# Altium footprint library NL_PCB_L.PcbLib: 10 footprints
Each footprint in its own frame and in the unit in brackets; x right, y up, seen from the top. Pads: shape width x height; smd on the part's side, far side on the other; paste and mask are expansions set on the pad; w line width, h text height; cw(c..) or ccw(c..) is an arc to the next point about the centre after c.
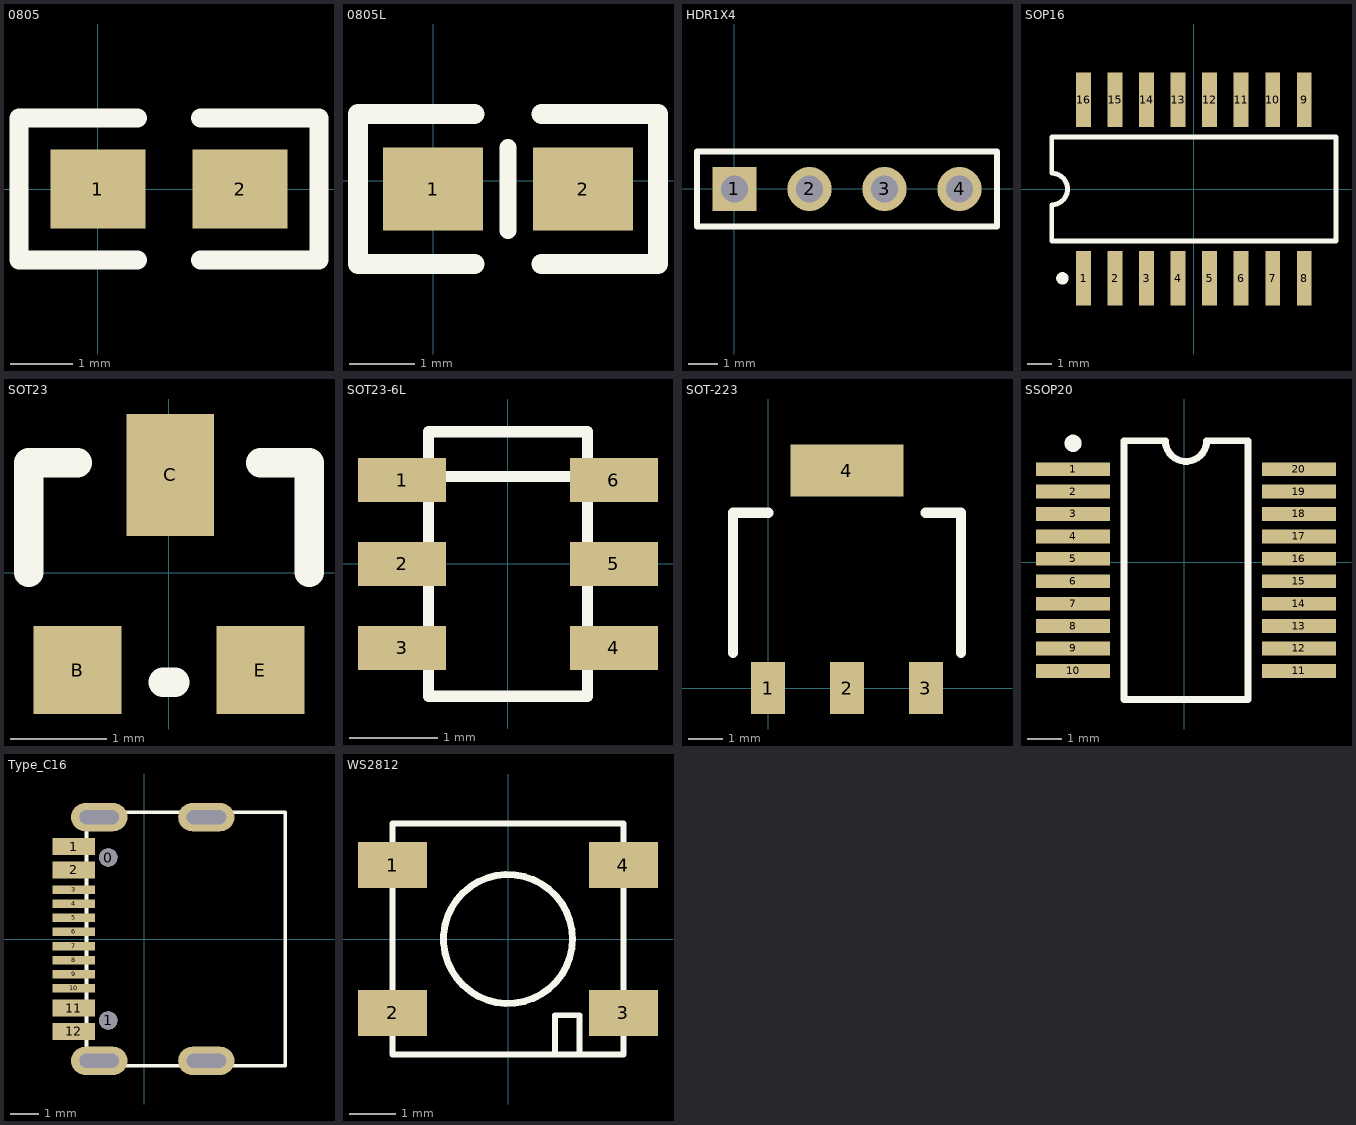
[diagram p0: the footprints below, top view; thin cyan lines are the x and y axes]

## 0805 [mil]
pads (2):
  rect 60x50 smd: 1(0,0) 2(90,0)
Top Overlay:
  lines w12: 25,-45 -50,-45 -50,45 25,45 ; 65,-45 140,-45 140,45 65,45

## 0805L [mil]
pads (2):
  rect 60x50 smd: 1(0,-5) 2(90,-5)
Top Overlay:
  lines w10: 45,-30 45,20
  lines w12: 25,-50 -45,-50 -45,40 25,40 ; 65,-50 135,-50 135,40 65,40

## HDR1X4 [mm] "Connector; Header; 4 Position"
pads (4):
  rect 1.5x1.5 hole 0.9: 1(0,0)
  round 1.5 hole 0.9: 2(2.54,0) 3(5.08,0) 4(7.62,0)
Top Overlay:
  lines w0.2: -1.27,-1.27 8.89,-1.27 8.89,1.27 -1.27,1.27 -1.27,-1.27

## SOP16 [mm] "Small Outline; 16 Leads; Body Width 5.6 mm; Pit"
height 2
pads (16):
  rect 0.6x2.2 smd: 1(-4.445,-3.6) 2(-3.175,-3.6) 3(-1.905,-3.6) 4(-0.635,-3.6) 5(0.635,-3.6) 6(1.905,-3.6) 7(3.175,-3.6) 8(4.445,-3.6) 9(4.445,3.6) 10(3.175,3.6) 11(1.905,3.6) 12(0.635,3.6) 13(-0.635,3.6) 14(-1.905,3.6) 15(-3.175,3.6) 16(-4.445,3.6)
Top Overlay:
  circle w0.25: c-5.295,-3.6 r0.125
  lines w0.2: -5.725,-2.1 -5.725,-0.635 ccw(c-5.725,0) -5.725,0.635 -5.725,2.1 5.725,2.1 5.725,-2.1 -5.725,-2.1
3D body: height 1.8, standoff -0.2, extent -5.1,-3.96 5.1,3.96

## SOT23 [mil]
pads (3):
  rect 36x36 smd: B(-37.5,-40) E(37.5,-40)
  rect 36x50 smd: C(0.5,40)
Top Overlay:
  lines w12: -57.5,0 -57.5,45 -37.5,45 ; -2.5,-45 2.5,-45 ; 37.5,45 57.5,45 57.5,0
3D body: height 42.52, standoff 0, extent -58.05,-47.96 60.06,55.97

## SOT23-6L [mm]
pads (6):
  rect 1x0.5 smd: 1(-1.2,0.95) 2(-1.2,0) 3(-1.2,-0.95) 4(1.2,-0.95) 5(1.2,0) 6(1.2,0.95)
Top Overlay:
  lines w0.127: -0.889,0.991 0.875,0.991 ; -0.9,-1.5 0.9,-1.5 0.9,1.5 -0.9,1.5 -0.9,-1.5

## SOT-223 [mil]
pads (4):
  rect 39x59 smd: 1(0,0) 3(180,0)
  rect 38.98x59.05 smd: 2(90,0)
  rect 129.13x59 smd: 4(90,248.03)
Top Overlay:
  lines w11.81: -40,40 -40,200 0,200 ; 180,200 220,200 220,40

## SSOP20 [mm]
pads (20):
  rect 2.15x0.4 smd: 1(-3.224,2.696) 2(-3.224,2.046) 3(-3.224,1.396) 4(-3.224,0.746) 5(-3.224,0.096) 6(-3.224,-0.554) 7(-3.224,-1.204) 8(-3.224,-1.854) 9(-3.224,-2.504) 10(-3.224,-3.154) 11(3.326,-3.154) 12(3.326,-2.504) 13(3.326,-1.854) 14(3.326,-1.204) 15(3.326,-0.554) 16(3.326,0.096) 17(3.326,0.746) 18(3.326,1.396) 19(3.326,2.046) 20(3.326,2.696)
Top Overlay:
  circle w0.25: c-3.224,3.446 r0.125
  lines w0.2: -1.749,-3.979 1.851,-3.979 1.851,3.521 0.651,3.521 cw(c0.051,3.521) -0.549,3.521 -1.749,3.521 -1.749,-3.979

## Type_C16 [mm] "16pin"
pads (18):
  round 0.65 hole 0.65: 0(-1.28,2.89) 1(-1.28,-2.89)
  rect 1.5x0.6 smd: 1(-2.5,3.275) 2(-2.5,2.45) 11(-2.5,-2.45) 12(-2.5,-3.275)
  rect 1.5x0.3 smd: 3(-2.5,1.75) 4(-2.5,1.25) 5(-2.5,0.75) 6(-2.5,0.25) 7(-2.5,-0.25) 8(-2.5,-0.75) 9(-2.5,-1.25) 10(-2.5,-1.75)
  oval 2x1 hole 0.5 slot 1.4 at 0 deg: ""(-1.6,-4.32) ""(-1.6,4.32) ""(2.2,-4.32) ""(2.2,4.32)
Top Overlay:
  lines w0.127: -2.052,4.5 -2.052,-4.5 5,-4.5 5,4.5 -2,4.5

## WS2812 [mm]
pads (4):
  rect 1.5x1 smd: 1(-2.5,1.6) 2(-2.5,-1.6) 3(2.5,-1.6) 4(2.5,1.6)
Top Overlay:
  circle w0.15: c0,0 r1.397
  lines w0.127: 1.016,-2.464 1.016,-1.651 1.549,-1.651 1.549,-2.5 ; -2.5,-2.5 -2.5,2.5 2.5,2.5 2.5,-2.5 -2.5,-2.5